# Altium footprint library Connectors.PcbLib: 80 footprints (part 4 of 5)
Each footprint in its own frame and in the unit in brackets; x right, y up, seen from the top. Pads: shape width x height; smd on the part's side, far side on the other; paste and mask are expansions set on the pad; w line width, h text height; cw(c..) or ccw(c..) is an arc to the next point about the centre after c.
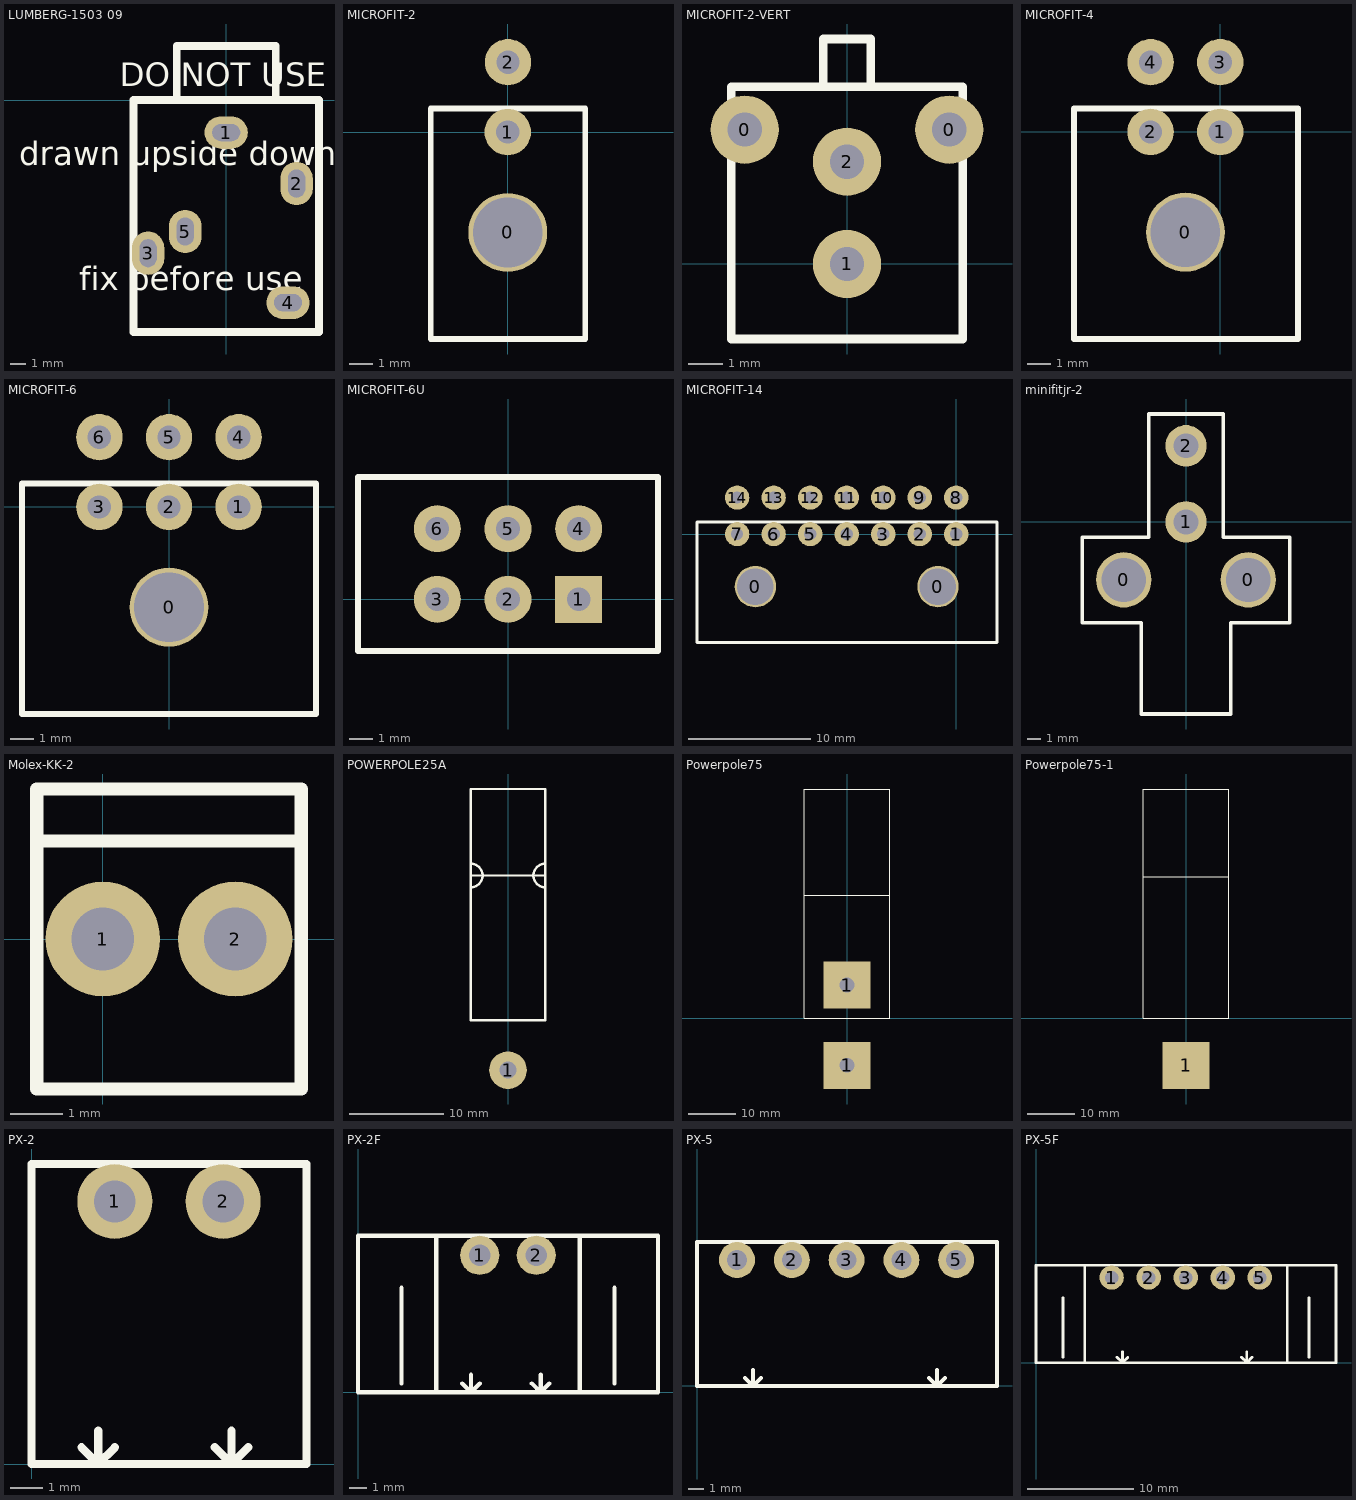
[diagram p3: the footprints below, top view; thin cyan lines are the x and y axes]

## LUMBERG-1503 09 [mm] "SOCKET, 3.5MM JACK, R/A, STEREO"
height 6
pads (5):
  oval 2.8x2.1 hole 1.1 slot 1.8 at 0 deg: 1(0,-2.1) 4(4,-13.1)
  oval 2.1x2.8 hole 1.1 slot 1.8 at 90 deg: 2(4.55,-5.4) 3(-5.05,-9.9) 5(-2.65,-8.5)
TopOverlay:
  lines w0.508: -3.2,0 -3.2,3.5 3.2,3.5 3.2,0 ; -6,-15 6,-15 6,0 -6,0 -6,-15
  text "fix before use" at -9.5,-12.3 h1.52
  text "drawn upside down" at -13.4,-4.2 h1.52
  text "DO NOT USE" at -6.9,0.9 h1.52

## MICROFIT-2 [mm]
pads (3):
  round 3.4 hole 3: 0(0,-4.32)
  round 2 hole 1: 1(0,0) 2(0.01,3.01)
TopOverlay:
  lines w0.254: -3.315,-8.91 -3.315,1.01 3.335,1.01 3.335,-8.91 -3.315,-8.91

## MICROFIT-2-VERT [mm]
pads (4):
  round 2 hole 1: 0(-3,3.94) 0(3,3.94) 1(0,0) 2(0,3)
TopOverlay:
  lines w0.254: -0.7,5.2 -0.7,6.6 0.7,6.6 0.7,5.2 ; -3.4,-2.2 -3.4,1.5 -3.4,5.2 3.4,5.2 3.4,-2.2 -3.4,-2.2

## MICROFIT-4 [mm]
pads (5):
  round 3.4 hole 3: 0(-1.5,-4.32)
  round 2 hole 1: 1(0,0) 2(-3,0) 3(0,3) 4(-3,3)
TopOverlay:
  lines w0.254: -6.3,-8.92 -6.3,1 3.35,1 3.35,-8.92 -6.3,-8.92

## MICROFIT-6 [mm]
pads (7):
  round 3.4 hole 3: 0(0,-4.32)
  round 2 hole 1: 1(3,0) 2(0,0) 3(-3,0) 4(3,3) 5(0,3) 6(-3,3)
TopOverlay:
  lines w0.254: -6.325,-8.92 -6.325,1 6.325,1 6.325,-8.92 -6.3,-8.92

## MICROFIT-6U [mm]
pads (6):
  rect 2x2 hole 1: 1(3,0)
  round 2 hole 1: 2(0,0) 3(-3,0) 4(3,3) 5(0,3) 6(-3,3)
TopOverlay:
  lines w0.254: -6.375,-2.2 -6.375,5.2 ; -6.325,5.2 6.325,5.2 ; -6.3,-2.2 6.325,-2.2 ; 6.375,-2.2 6.375,5.2

## MICROFIT-14 [mm]
pads (16):
  round 3.4 hole 3: 0(-16.5,-4.32) 0(-1.5,-4.32)
  round 2 hole 1: 1(0,0) 2(-3,0) 3(-6,0) 4(-9,0) 5(-12,0) 6(-15,0) 7(-18,0) 8(0,3) 9(-3,3) 10(-6,3) 11(-9,3) 12(-12,3) 13(-15,3) 14(-18,3)
TopOverlay:
  lines w0.254: -4.865,-8.91 -21.3,-8.92 -21.3,1 3.35,1 3.35,-8.92 -4.815,-8.91

## minifitjr-2 [mm]
height 15
pads (4):
  round 4 hole 3.2: 0(-4.5,-4.2) 0(4.5,-4.2)
  round 3 hole 1.8: 1(0,0) 2(0,5.5)
TopOverlay:
  lines w0.254: -7.5,-7.3 -7.5,-1.1 -2.7,-1.1 -2.7,7.8 2.7,7.8 2.7,-1.1 7.5,-1.1 7.5,-7.3 3.25,-7.3 3.25,-13.9 -3.25,-13.9 -3.25,-7.3 -7.5,-7.3

## Molex-KK-2 [mm]
pads (2):
  round 2.2 hole 1.2: 1(0,0) 2(2.54,0)
TopOverlay:
  lines w0.254: -1.27,1.88 3.81,1.88 ; -1.27,-2.88 -1.27,2.88 3.81,2.88 3.81,-2.88 -1.27,-2.88

## POWERPOLE25A [mm]
height 10
pads (1):
  round 4 hole 1.8: 1(0,13.589)
TopOverlay:
  lines w0.254: -3.95,33.05 ccw(c-3.95,34.3) -3.95,35.55 ; -3.95,34.3 3.95,34.29 ; 3.95,33.05 cw(c3.95,34.3) 3.95,35.55 ; -3.95,18.9 3.95,18.9 3.95,43.5 -3.95,43.5 -3.95,18.9

## Powerpole75 [mm]
pads (2):
  rect 10x10 / inner rect 10x10 / far side round 5 hole 3.1: 1(0,-10) 1(0,7)
TopOverlay:
  lines w0.1: -9,26 9,26 ; -9,0 9,0 9,48.5 -9,48.5 -9,0

## Powerpole75-1 [mm]
pads (1):
  rect 10x10 smd: 1(0,-10)
TopOverlay:
  lines w0.1: -9,29.9 9,29.9 ; -9,0 -9,48.5 9,48.5 9,0 -9,0

## PX-2 [mil]
pads (2):
  round 90 hole 50: 1(100,315) 2(230,315)
TopOverlay:
  lines w10: 60,20 80,0 ; 80,40 80,0 ; 100,20 80,0 ; 220,20 240,0 ; 240,40 240,0 ; 260,20 240,0 ; 0,0 330,0 330,360 0,360 0,0

## PX-2F [mil]
pads (2):
  round 90 hole 50: 1(280,315) 2(410,315)
TopOverlay:
  lines w10: 100,20 100,240 ; 240,20 260,0 ; 260,40 260,0 ; 280,20 260,0 ; 400,20 420,0 ; 420,40 420,0 ; 440,20 420,0 ; 590,20 590,240 ; 180,0 0,0 0,360 180,360 ; 180,0 510,0 ; 180,0 180,360 ; 180,360 510,360 ; 510,0 690,0 690,360 510,360 ; 510,0 510,360

## PX-5 [mil]
pads (5):
  round 90 hole 50: 1(100,315) 2(237,315) 3(374,315) 4(511,315) 5(648,315)
TopOverlay:
  lines w10: 120,20 140,0 ; 140,40 140,0 ; 160,20 140,0 ; 580,20 600,0 ; 600,40 600,0 ; 620,20 600,0 ; 0,0 0,360 750,360 750,0 0,0

## PX-5F [mil]
pads (5):
  round 90 hole 50: 1(280,315) 2(417,315) 3(554,315) 4(691,315) 5(828,315)
TopOverlay:
  lines w10: 100,20 100,240 ; 300,20 320,0 ; 320,40 320,0 ; 340,20 320,0 ; 760,20 780,0 ; 780,40 780,0 ; 800,20 780,0 ; 1010,20 1010,240 ; 180,0 0,0 0,360 180,360 ; 180,0 180,360 ; 180,0 180,360 ; 180,0 930,0 ; 180,360 930,360 ; 930,0 1110,0 1110,360 930,360 ; 930,0 930,360 ; 930,0 930,360